# Altium footprint library PcbLib1.PcbLib: 2 footprints
Each footprint in its own frame and in the unit in brackets; x right, y up, seen from the top. Pads: shape width x height; smd on the part's side, far side on the other; paste and mask are expansions set on the pad; w line width, h text height; cw(c..) or ccw(c..) is an arc to the next point about the centre after c.
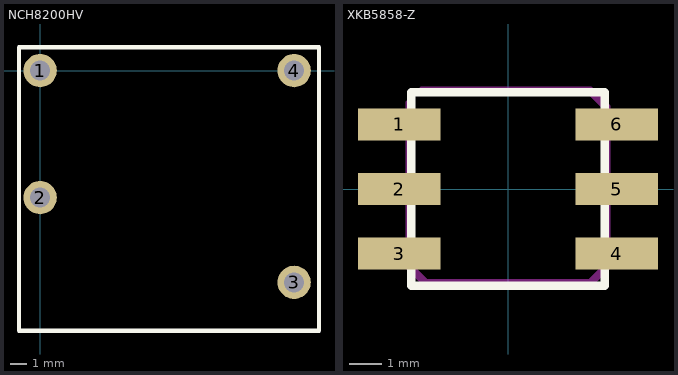
[diagram p0: the footprints below, top view; thin cyan lines are the x and y axes]

## NCH8200HV [mm]
pads (4):
  round 2 hole 1.2: 1(0,0) 2(0,-7.62) 3(15.24,-12.7) 4(15.24,0)
Top Overlay:
  lines w0.254: -1.27,-15.603 16.73,-15.603 16.73,1.397 -1.27,1.397 -1.27,-15.603

## XKB5858-Z [mm]
pads (6):
  rect 2.55x1 smd: 1(-3.375,2) 2(-3.375,0) 3(-3.375,-2) 4(3.375,-2) 5(3.375,0) 6(3.375,2)
Top Overlay:
  lines w0.254: -3,-3 -3,3 3,3 3,-3 -3,-3
Keep-Out Layer:
  lines w0.254: -3.048,2.667 -3.048,-2.413 -2.54,-2.921 2.54,-2.921 3.048,-2.413 3.048,2.54 2.54,3.048 -2.667,3.048